# EAGLE library part TT (library untitled)
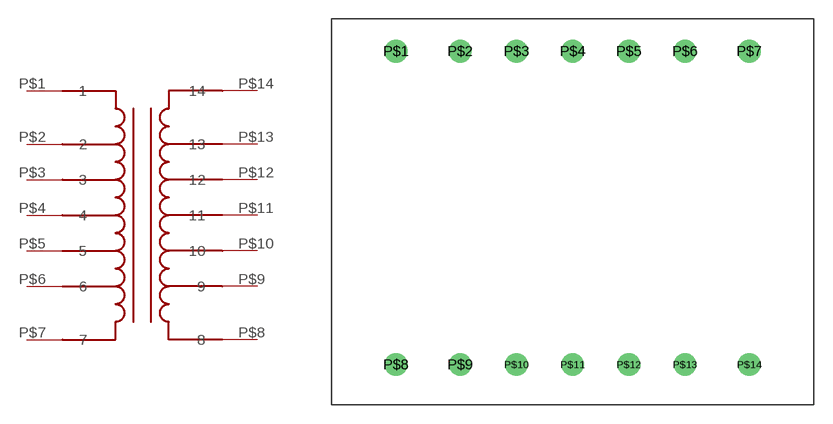
[diagram p0: symbol with the pads of 14; footprint 14]

Designator prefix -

## TTN  [14]
P$1  1
P$2  2
P$3  3
P$4  4
P$5  5
P$6  6
P$7  7
P$8  8
P$9  9
P$10  10
P$11  11
P$12  12
P$13  13
P$14  14

## Footprint 14 (pad centres in mm)
drill 1.2 round: P$1 -13.97,12.7; P$2 -8.89,12.7; P$3 -4.445,12.7; P$4 0,12.7; P$5 4.445,12.7; P$6 8.89,12.7; P$7 13.97,12.7; P$8 -13.97,-12.065; P$9 -8.89,-12.065; P$10 -4.445,-12.065; P$11 0,-12.065; P$12 4.445,-12.065; P$13 8.89,-12.065; P$14 13.97,-12.065